# Altium footprint library AutoBike.PcbLib: 22 footprints (part 2 of 2)
Each footprint in its own frame and in the unit in brackets; x right, y up, seen from the top. Pads: shape width x height; smd on the part's side, far side on the other; paste and mask are expansions set on the pad; w line width, h text height; cw(c..) or ccw(c..) is an arc to the next point about the centre after c.
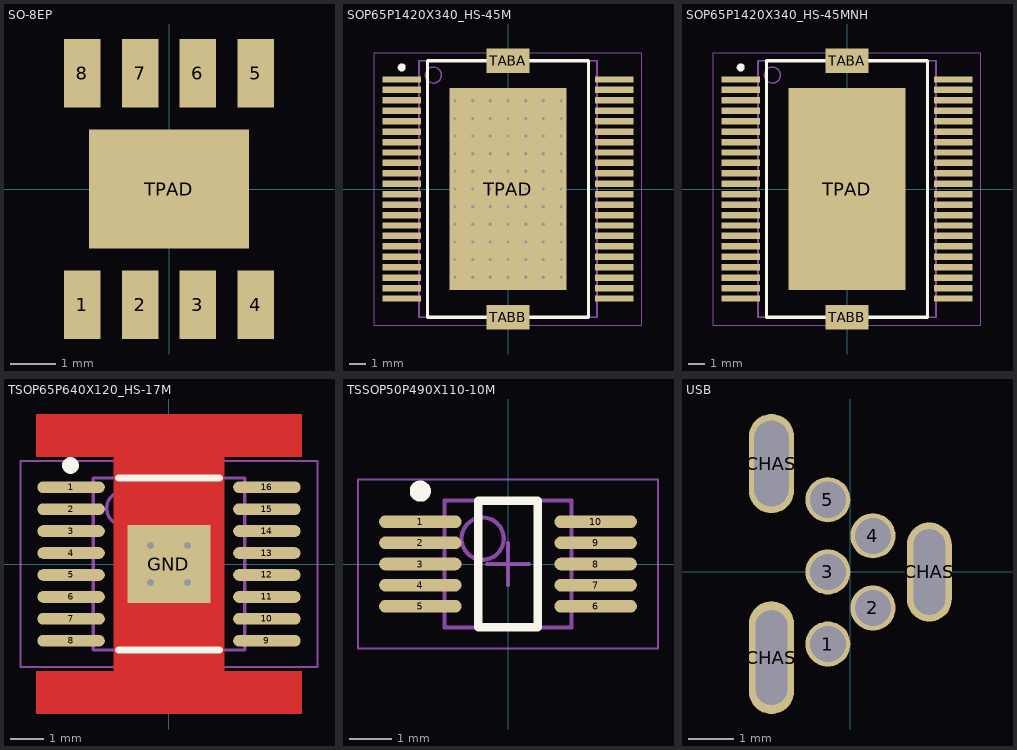
[diagram p1: the footprints below, top view; thin cyan lines are the x and y axes]

## SO-8EP [mm] "ZXBM5210-SP-13"
pads (9):
  rect 0.802x1.505 smd: 1(-1.905,-2.54) 2(-0.635,-2.54) 3(0.635,-2.54) 4(1.905,-2.54) 5(1.905,2.54) 6(0.635,2.54) 7(-0.635,2.54) 8(-1.905,2.54)
  rect 3.502x2.613 smd: TPAD(0,0)
3D body: height 1.5, standoff 0.13, extent -2.54,-1.905 2.54,1.905

## SOP65P1420X340_HS-45M [mm] "SOP, 44-Leads, Body 15.90x11.00mm, Pitch 0.65mm, Thermal Pad 12.60.2x7.30.2mm, IPC Low Density"
height 3.4
pads (47):
  rect 2.4x0.4 smd: 1(-6.625,6.825) 2(-6.625,6.175) 3(-6.625,5.525) 4(-6.625,4.875) 5(-6.625,4.225) 6(-6.625,3.575) 7(-6.625,2.925) 8(-6.625,2.275) 9(-6.625,1.625) 10(-6.625,0.975) 11(-6.625,0.325) 12(-6.625,-0.325) 13(-6.625,-0.975) 14(-6.625,-1.625) 15(-6.625,-2.275) 16(-6.625,-2.925) 17(-6.625,-3.575) 18(-6.625,-4.225) 19(-6.625,-4.875) 20(-6.625,-5.525) 21(-6.625,-6.175) 22(-6.625,-6.825) 23(6.625,-6.825) 24(6.625,-6.175) 25(6.625,-5.525) 26(6.625,-4.875) 27(6.625,-4.225) 28(6.625,-3.575) 29(6.625,-2.925) 30(6.625,-2.275) 31(6.625,-1.625) 32(6.625,-0.975) 33(6.625,-0.325) 34(6.625,0.325) 35(6.625,0.975) 36(6.625,1.625) 37(6.625,2.275) 38(6.625,2.925) 39(6.625,3.575) 40(6.625,4.225) 41(6.625,4.875) 42(6.625,5.525) 43(6.625,6.175) 44(6.625,6.825)
  rect 2.7x1.524 smd: TABA(0,8) TABB(0,-8)
  rect 7.3x12.6 smd: TPAD(0,0)
via -3.3,5.5 diameter 0.5 hole 0.2
via -2.2,5.5 diameter 0.5 hole 0.2
via -1.1,5.5 diameter 0.5 hole 0.2
via 0,5.5 diameter 0.5 hole 0.2
via 1.1,5.5 diameter 0.5 hole 0.2
via 2.2,5.5 diameter 0.5 hole 0.2
via 3.3,5.5 diameter 0.5 hole 0.2
via -3.3,4.4 diameter 0.5 hole 0.2
via -2.2,4.4 diameter 0.5 hole 0.2
via -1.1,4.4 diameter 0.5 hole 0.2
via 0,4.4 diameter 0.5 hole 0.2
via 1.1,4.4 diameter 0.5 hole 0.2
via 2.2,4.4 diameter 0.5 hole 0.2
via 3.3,4.4 diameter 0.5 hole 0.2
via -3.3,3.3 diameter 0.5 hole 0.2
via -2.2,3.3 diameter 0.5 hole 0.2
via -1.1,3.3 diameter 0.5 hole 0.2
via 0,3.3 diameter 0.5 hole 0.2
via 1.1,3.3 diameter 0.5 hole 0.2
via 2.2,3.3 diameter 0.5 hole 0.2
via 3.3,3.3 diameter 0.5 hole 0.2
via -3.3,2.2 diameter 0.5 hole 0.2
via -2.2,2.2 diameter 0.5 hole 0.2
via -1.1,2.2 diameter 0.5 hole 0.2
via 0,2.2 diameter 0.5 hole 0.2
via 1.1,2.2 diameter 0.5 hole 0.2
via 2.2,2.2 diameter 0.5 hole 0.2
via 3.3,2.2 diameter 0.5 hole 0.2
via -3.3,1.1 diameter 0.5 hole 0.2
via -2.2,1.1 diameter 0.5 hole 0.2
via -1.1,1.1 diameter 0.5 hole 0.2
via 0,1.1 diameter 0.5 hole 0.2
via 1.1,1.1 diameter 0.5 hole 0.2
via 2.2,1.1 diameter 0.5 hole 0.2
via 3.3,1.1 diameter 0.5 hole 0.2
via -3.3,0 diameter 0.5 hole 0.2
via -2.2,0 diameter 0.5 hole 0.2
via -1.1,0 diameter 0.5 hole 0.2
via 0,0 diameter 0.5 hole 0.2
via 1.1,0 diameter 0.5 hole 0.2
via 2.2,0 diameter 0.5 hole 0.2
via 3.3,0 diameter 0.5 hole 0.2
via -3.3,-1.1 diameter 0.5 hole 0.2
via -2.2,-1.1 diameter 0.5 hole 0.2
via -1.1,-1.1 diameter 0.5 hole 0.2
via 0,-1.1 diameter 0.5 hole 0.2
via 1.1,-1.1 diameter 0.5 hole 0.2
via 2.2,-1.1 diameter 0.5 hole 0.2
via 3.3,-1.1 diameter 0.5 hole 0.2
via -3.3,-2.2 diameter 0.5 hole 0.2
via -2.2,-2.2 diameter 0.5 hole 0.2
via -1.1,-2.2 diameter 0.5 hole 0.2
via 0,-2.2 diameter 0.5 hole 0.2
via 1.1,-2.2 diameter 0.5 hole 0.2
via 2.2,-2.2 diameter 0.5 hole 0.2
via 3.3,-2.2 diameter 0.5 hole 0.2
via -3.3,-3.3 diameter 0.5 hole 0.2
via -2.2,-3.3 diameter 0.5 hole 0.2
via -1.1,-3.3 diameter 0.5 hole 0.2
via 0,-3.3 diameter 0.5 hole 0.2
via 1.1,-3.3 diameter 0.5 hole 0.2
via 2.2,-3.3 diameter 0.5 hole 0.2
via 3.3,-3.3 diameter 0.5 hole 0.2
via -3.3,-4.4 diameter 0.5 hole 0.2
via -2.2,-4.4 diameter 0.5 hole 0.2
via -1.1,-4.4 diameter 0.5 hole 0.2
via 0,-4.4 diameter 0.5 hole 0.2
via 1.1,-4.4 diameter 0.5 hole 0.2
via 2.2,-4.4 diameter 0.5 hole 0.2
via 3.3,-4.4 diameter 0.5 hole 0.2
via -3.3,-5.5 diameter 0.5 hole 0.2
via -2.2,-5.5 diameter 0.5 hole 0.2
via -1.1,-5.5 diameter 0.5 hole 0.2
via 0,-5.5 diameter 0.5 hole 0.2
via 1.1,-5.5 diameter 0.5 hole 0.2
via 2.2,-5.5 diameter 0.5 hole 0.2
via 3.3,-5.5 diameter 0.5 hole 0.2
Top Overlay:
  circle w0.25: c-6.625,7.575 r0.125
  lines w0.2: -5.025,-8 5.025,-8 5.025,8 -5.025,8 -5.025,-8
Mechanical 13:
  circle w0.1: c-4.65,7.1 r0.5
  lines w0.1: -5.55,-8 5.55,-8 5.55,8 -5.55,8 -5.55,-8
Mechanical 15:
  lines w0.05: -8.325,-8.5 8.325,-8.5 8.325,8.5 -8.325,8.5 -8.325,-8.5
  lines w0.1: -0.5,0 0.5,0 ; 0,-0.5 0,0.5
3D body: height 3.4, standoff 0.35, extent -5.55,-8 5.55,8

## SOP65P1420X340_HS-45MNH [mm] "SOP, 44-Leads, Body 15.90x11.00mm, Pitch 0.65mm, Thermal Pad 12.60.2x7.30.2mm, IPC Low Density"
pads (47):
  rect 2.4x0.4 smd paste+0 mask+0.051: 1(-6.625,6.825) 2(-6.625,6.175) 3(-6.625,5.525) 4(-6.625,4.875) 5(-6.625,4.225) 6(-6.625,3.575) 7(-6.625,2.925) 8(-6.625,2.275) 9(-6.625,1.625) 10(-6.625,0.975) 11(-6.625,0.325) 12(-6.625,-0.325) 13(-6.625,-0.975) 14(-6.625,-1.625) 15(-6.625,-2.275) 16(-6.625,-2.925) 17(-6.625,-3.575) 18(-6.625,-4.225) 19(-6.625,-4.875) 20(-6.625,-5.525) 21(-6.625,-6.175) 22(-6.625,-6.825) 23(6.625,-6.825) 24(6.625,-6.175) 25(6.625,-5.525) 26(6.625,-4.875) 27(6.625,-4.225) 28(6.625,-3.575) 29(6.625,-2.925) 30(6.625,-2.275) 31(6.625,-1.625) 32(6.625,-0.975) 33(6.625,-0.325) 34(6.625,0.325) 35(6.625,0.975) 36(6.625,1.625) 37(6.625,2.275) 38(6.625,2.925) 39(6.625,3.575) 40(6.625,4.225) 41(6.625,4.875) 42(6.625,5.525) 43(6.625,6.175) 44(6.625,6.825)
  rect 2.7x1.524 smd: TABA(0,8) TABB(0,-8)
  rect 7.3x12.6 smd: TPAD(0,0)
Top Overlay:
  circle w0.25: c-6.625,7.575 r0.125
  lines w0.2: -5.025,-8 -5.025,8 5.025,8 5.025,-8 -5.025,-8
Mechanical 13:
  circle w0.1: c-4.65,7.1 r0.5
  lines w0.1: -5.55,-8 -5.55,8 5.55,8 5.55,-8 -5.55,-8
Mechanical 15:
  lines w0.05: -8.325,-8.5 -8.325,8.5 8.325,8.5 8.325,-8.5 -8.325,-8.5
3D body: height 3.4, standoff 0.35, extent -5.55,-8 5.55,8

## TSOP65P640X120_HS-17M [mm] "TSOP, 16-Leads, Body 5.00x4.40mm, Pitch 0.65mm, Thermal Pad 2.31.2x2.46.2mm, IPC Low Density"
height 1.2
pads (17):
  oval 2x0.35 smd: 1(-2.9,2.275) 2(-2.9,1.625) 3(-2.9,0.975) 4(-2.9,0.325) 5(-2.9,-0.325) 6(-2.9,-0.975) 7(-2.9,-1.625) 8(-2.9,-2.275) 9(2.9,-2.275) 10(2.9,-1.625) 11(2.9,-0.975) 12(2.9,-0.325) 13(2.9,0.325) 14(2.9,0.975) 15(2.9,1.625) 16(2.9,2.275)
  rect 2.46x2.31 smd: GND(0,0)
via 0.55,0.55 diameter 0.5 hole 0.2
via -0.55,-0.55 diameter 0.5 hole 0.2
via 0.55,-0.55 diameter 0.5 hole 0.2
via -0.55,0.55 diameter 0.5 hole 0.2
Top Layer:
  rectangle: -3.937,-4.445 3.937,-3.175
  rectangle: -3.937,3.175 3.937,4.445
  rectangle: -1.651,-3.175 1.651,3.302
Top Overlay:
  circle w0.25: c-2.919,2.921 r0.125
  lines w0.2: -1.5,-2.55 1.5,-2.55 ; -1.5,2.55 1.5,2.55
Mechanical 13:
  circle w0.1: c-1.35,1.65 r0.5
  lines w0.1: -2.25,-2.55 -2.25,2.55 2.25,2.55 2.25,-2.55 -2.25,-2.55
Mechanical 15:
  lines w0.05: -4.4,-3.05 -4.4,3.05 4.4,3.05 4.4,-3.05 -4.4,-3.05
  lines w0.1: -0.5,0 0.5,0 ; 0,-0.5 0,0.5
3D body: height 1.2, standoff 0.15, extent -2.25,-2.55 2.25,2.55

## TSSOP50P490X110-10M [mm] "TSSOP, 10-Leads, Body 3.00x3.00mm, Pitch 0.50mm, IPC Low Density"
height 1.1
pads (10):
  oval 1.95x0.3 smd: 1(-2.075,1) 2(-2.075,0.5) 3(-2.075,0) 4(-2.075,-0.5) 5(-2.075,-1) 6(2.075,-1) 7(2.075,-0.5) 8(2.075,0) 9(2.075,0.5) 10(2.075,1)
Top Overlay:
  circle w0.25: c-2.075,1.725 r0.125
  lines w0.2: -0.7,-1.5 0.7,-1.5 0.7,1.5 -0.7,1.5 -0.7,-1.5
Mechanical 13:
  circle w0.1: c-0.6,0.6 r0.5
  lines w0.1: -1.5,-1.5 1.5,-1.5 1.5,1.5 -1.5,1.5 -1.5,-1.5
Mechanical 15:
  lines w0.05: -3.55,-2 3.55,-2 3.55,2 -3.55,2 -3.55,-2
  lines w0.1: -0.5,0 0.5,0 ; 0,-0.5 0,0.5
3D body: height 1.1, standoff 0.23, extent -1.5,-1.5 1.5,1.5

## USB [mm] "CD_1734753_A1"
pads (8):
  round 1 hole 0.8 mask+0.051: 1(-0.5,-1.6) 2(0.5,-0.8) 3(-0.5,0) 4(0.5,0.8) 5(-0.5,1.6)
  oval 1x2.5 hole 0.7 slot 2.1 at 90 deg mask+0.051: CHAS(-1.75,-1.9)
  oval 1x2.2 hole 0.762 slot 1.9 at 90 deg mask+0.051: CHAS(-1.75,2.4)
  oval 1x2.2 hole 0.7 slot 1.9 at 90 deg mask+0.051: CHAS(1.75,0)
3D body: height 9, standoff -2.3, extent -2.14,-3.85 1.95,3.85